# EAGLE library part TPA6111 (library TPA_152)
TPA6111A2: Basic 150mW stereo headphone amplifier.
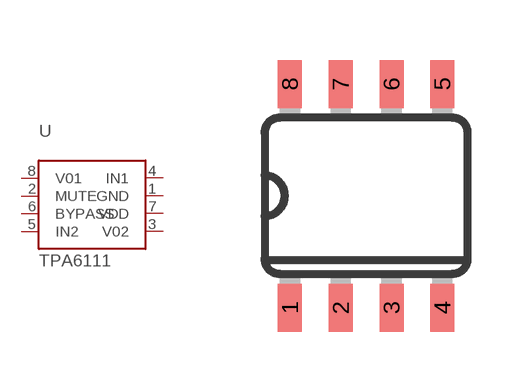
[diagram p1: symbol with the pads of SO08-TIGHT; footprint SO08-TIGHT]

Designator prefix U

## TPA6111SMD-T (PROD_ID: IC-10149)  [SO08-TIGHT]
1  GND
2  MUTE
3  V02
4  IN1
5  IN2
6  BYPASS
7  VDD
8  V01

## Footprint SO08-TIGHT (pad centres in mm)
smd 0.6 x 1.2: 1 -1.905,-2.8; 2 -0.635,-2.8; 3 0.635,-2.8; 4 1.905,-2.8; 5 1.905,2.8; 6 0.635,2.8; 7 -0.635,2.8; 8 -1.905,2.8